# EAGLE library part SPICONNECTOR (library myLib)
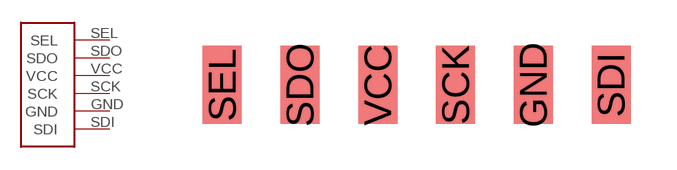
[diagram p1: symbol with the pads of SURFACECONTACT; footprint SURFACECONTACT]

Designator prefix -

## SPICONNECTORSURFACECONTACT  [SURFACECONTACT]
GND  GND
SCK  SCK
SDI  SDI
SDO  SDO
SEL  SEL
VCC  VCC

## Footprint SURFACECONTACT (pad centres in mm)
smd 1.27 x 2.54: GND 10.16,0; SCK 7.62,0; SDI 12.7,0; SDO 2.54,0; SEL 0,0; VCC 5.08,0